# Altium footprint library DIP-SW  0607.PCBlib: 56 footprints (part 3 of 4)
Each footprint in its own frame and in the unit in brackets; x right, y up, seen from the top. Pads: shape width x height; smd on the part's side, far side on the other; paste and mask are expansions set on the pad; w line width, h text height; cw(c..) or ccw(c..) is an arc to the next point about the centre after c.
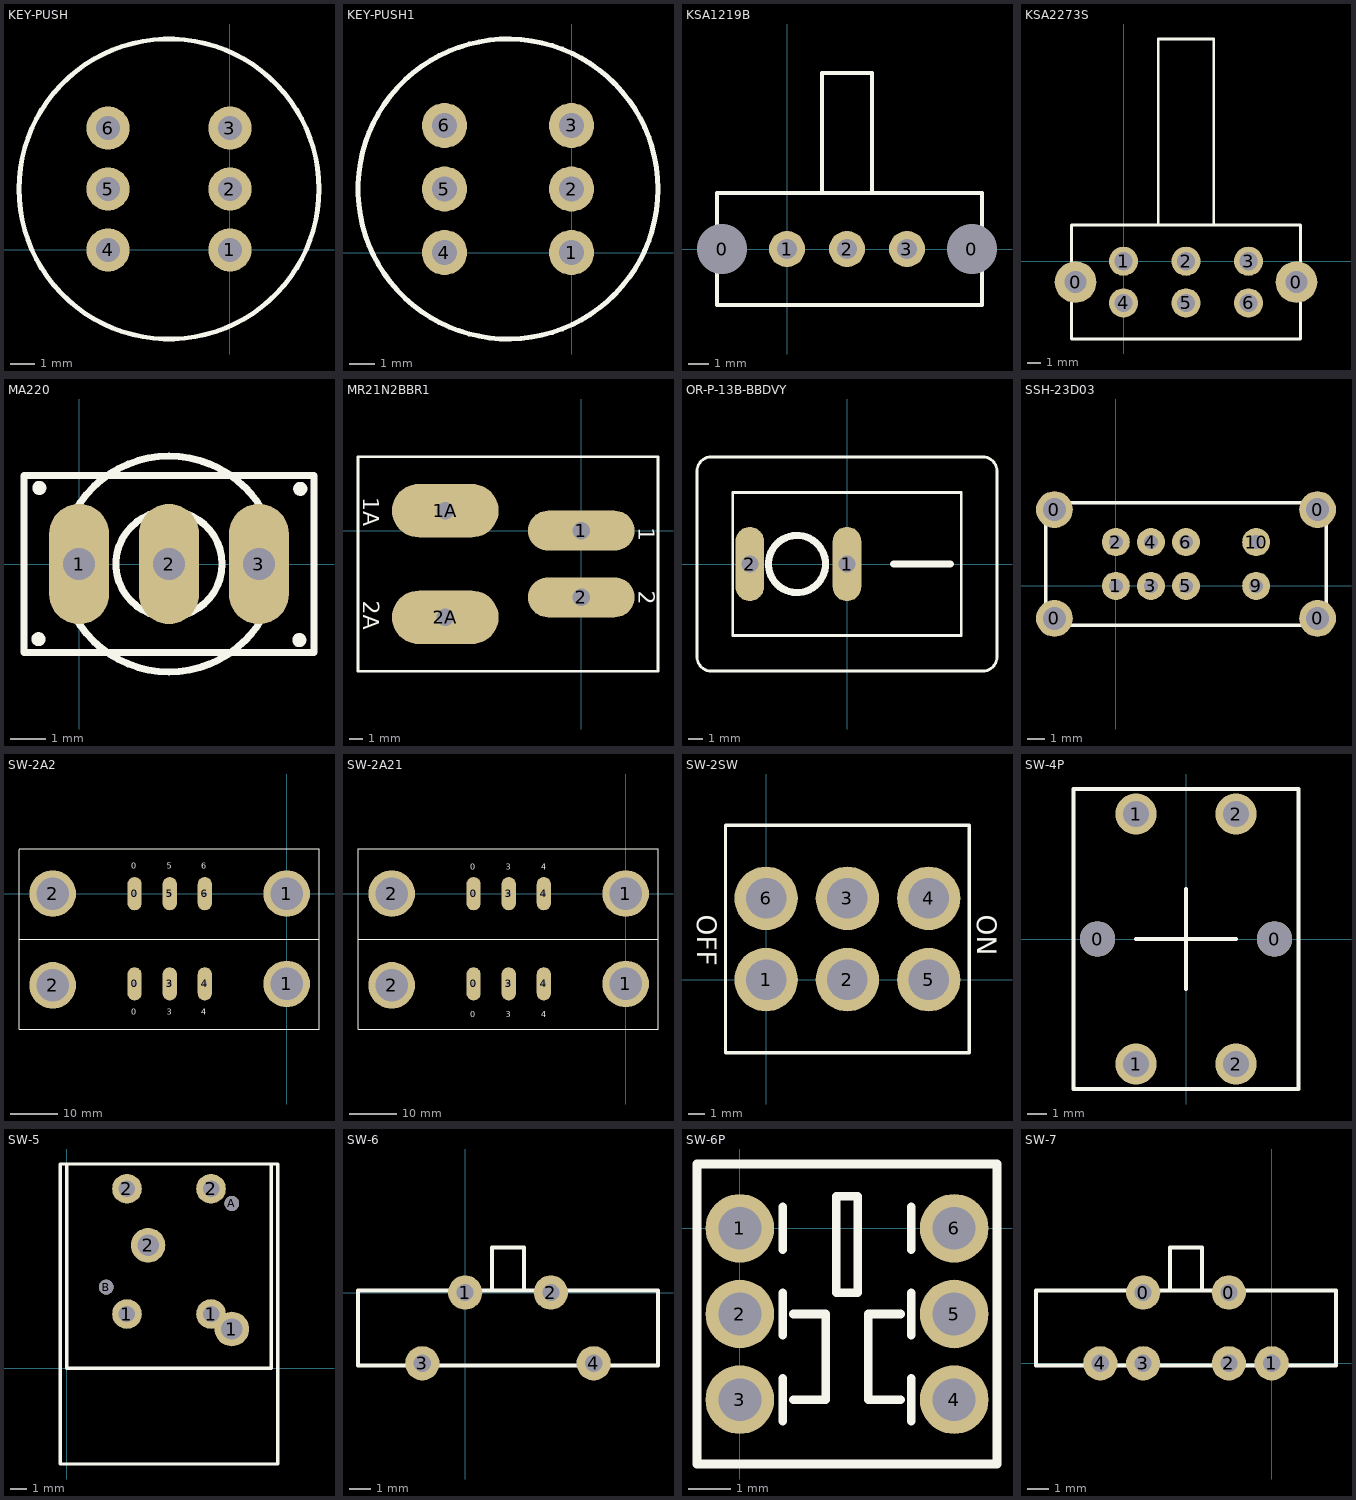
[diagram p2: the footprints below, top view; thin cyan lines are the x and y axes]

## KEY-PUSH [mm]
pads (6):
  round 1.8 hole 1: 1(0,0) 2(0,2.54) 3(0,5.08) 4(-5.08,0) 5(-5.08,2.54) 6(-5.08,5.08)
Top Overlay:
  circle w0.2: c-2.54,2.54 r6.25
Bottom Overlay:
  lines w0.4: -5.88,1.27 -4.28,1.27 ; -5.88,3.81 -4.28,3.81 ; -0.8,1.27 0.8,1.27 ; -0.8,3.81 0.8,3.81

## KEY-PUSH1 [mm]
pads (6):
  round 1.8 hole 1: 1(0,0) 2(0,2.54) 3(0,5.08) 4(-5.08,0) 5(-5.08,2.54) 6(-5.08,5.08)
Top Overlay:
  circle w0.2: c-2.54,2.54 r6
Bottom Overlay:
  lines w0.4: -5.88,1.27 -4.28,1.27 ; -5.88,3.81 -4.28,3.81 ; -0.8,1.27 0.8,1.27 ; -0.8,3.81 0.8,3.81

## KSA1219B [mm]
pads (5):
  round 2 hole 2.5 unplated: 0(-3.25,0) 0(9.25,0)
  round 1.8 hole 1: 1(0,0) 2(3,0) 3(6,0)
Top Overlay:
  lines w0.2: 1.75,2.8 1.75,8.8 4.25,8.8 4.25,2.8 ; -3.5,-2.8 9.75,-2.8 9.75,2.8 -3.5,2.8 -3.5,-2.8
Bottom Overlay:
  lines w0.5: 1.5,-0.8 1.5,0.8 ; 4.5,-0.8 4.5,0.8
Drill Drawing:
  circle w0.2: c9.25,0 r1.25
  circle w0.2: c-3.25,0 r1.25
  text "NPTH" at 7,-3 h1.2
  text "NPTH" at -5.5,-3 h1.2

## KSA2273S [mm]
pads (8):
  round 3 hole 1.6: 0(-3.45,-1.5) 0(12.45,-1.5)
  round 2.1 hole 1.3: 1(0,0) 2(4.5,0) 3(9,0) 4(0,-3) 5(4.5,-3) 6(9,-3)
Top Overlay:
  lines w0.2: 2.5,2.6 2.5,16 6.5,16 6.5,2.6 ; -3.75,-5.6 12.75,-5.6 12.75,2.6 -3.75,2.6 -3.75,-5.6
Bottom Overlay:
  lines w0.5: -1,-1.5 1,-1.5 ; 3.5,-1.5 5.5,-1.5 ; 8,-1.5 10,-1.5

## MA220 [mm]
height 23.7
pads (3):
  oval 1.7x3.4 hole 0.9: 1(0,0) 2(2.54,0) 3(5.08,0)
Top Overlay:
  circle w0.2: c-1.125,2.15 r0.1
  circle w0.2: c6.25,2.125 r0.1
  circle w0.2: c6.225,-2.15 r0.1
  circle w0.2: c-1.15,-2.125 r0.1
  circle w0.2: c2.54,0 r1.5
  lines w0.2: -0.126,-1.481 ccw(c2.54,0) 5.201,-1.491 ; -0.126,1.481 cw(c2.54,0) 5.201,1.491 ; -1.56,-2.5 6.64,-2.5 6.64,2.5 -1.56,2.5 -1.56,-2.5
Bottom Overlay:
  lines w0.5: 1.27,-1.75 1.27,1.75 ; 3.81,-1.75 3.81,1.75
Top Solder:
  lines w1.2: 0,-0.55 0,0 0,0.55 ; 2.54,-0.55 2.54,0 2.54,0.55 ; 5.08,-0.55 5.08,0 5.08,0.55
Drill Drawing:
  lines w0.2: -0.45,-0.55 ccw(c0,-0.55) 0.45,-0.55 0.45,0.55 ccw(c0,0.55) -0.45,0.55 -0.45,-0.55 ; 2.09,-0.55 ccw(c2.54,-0.55) 2.99,-0.55 2.99,0.55 ccw(c2.54,0.55) 2.09,0.55 2.09,-0.55 ; 4.63,-0.55 ccw(c5.08,-0.55) 5.53,-0.55 5.53,0.55 ccw(c5.08,0.55) 4.63,0.55 4.63,-0.55
  text "(0.9*2)mm*3" at -1.5,-3 h1

## MR21N2BBR1 [mm]
height 15.1
pads (4):
  oval 8x3 hole 1.3: 1(0,0) 2(0,-5)
  oval 8x4 hole 1.3: 1A(-10.2,1.5) 2A(-10.2,-6.5)
Top Overlay:
  lines w0.2: -16.75,-10.55 -16.75,5.55 5.75,5.55 5.75,-10.55 -16.75,-10.55
  text "2" at 4.3,-4.5 h1.2
  text "1" at 4.3,0.25 h1.2
  text "1A" at -16.35,2.5 h1.2
  text "2A" at -16.35,-5.25 h1.2
Drill Drawing:
  lines w0.2: -12.3,-7.15 cw(c-12.3,-6.5) -12.3,-5.85 -8.1,-5.85 cw(c-8.1,-6.5) -8.1,-7.15 -12.3,-7.15 ; -12.3,0.85 cw(c-12.3,1.5) -12.3,2.15 -8.1,2.15 cw(c-8.1,1.5) -8.1,0.85 -12.3,0.85 ; -2.1,-5.65 cw(c-2.1,-5) -2.1,-4.35 2.1,-4.35 cw(c2.1,-5) 2.1,-5.65 -2.1,-5.65 ; -2.1,-0.65 cw(c-2.1,0) -2.1,0.65 2.1,0.65 cw(c2.1,0) 2.1,-0.65 -2.1,-0.65
  text "(1.3X5.5)*4" at -13.1,-3 h1.2

## OR-P-13B-BBDVY [mm]
height 14
pads (2):
  oval 2x5.2 hole 1.2: 1(0,0) 2(-6.8,0)
Top Overlay:
  circle w0.5: c-3.5,0 r2
  lines w0.2: -10.5,6.5 ccw(c-10.5,6.5) -10.5,6.5 ; -10.5,6.5 cw(c-9.5,6.5) -9.5,7.5 9.5,7.5 cw(c9.5,6.5) 10.5,6.5 10.5,-6.5 cw(c9.5,-6.5) 9.5,-7.5 -9.5,-7.5 ; -10.5,6.5 -10.5,-6.5 ccw(c-9.5,-6.5) -9.5,-7.5 ; -9.5,-7.5 ccw(c-9.5,-7.5) -9.5,-7.5 ; -8,-5 -8,5 8,5 8,-5 -8,-5
  lines w0.5: 3.25,0 7.25,0
Drill Drawing:
  lines w0.2: -7.4,-1 ccw(c-6.8,-1) -6.2,-1 -6.2,1 ccw(c-6.8,1) -7.4,1 -7.4,-1 ; -0.6,-1 ccw(c0,-1) 0.6,-1 0.6,1 ccw(c0,1) -0.6,1 -0.6,-1
  text "(1.2X3.2)*2" at -7.5,-4.25 h1.2

## SSH-23D03 [mm]
pads (12):
  round 2.1 hole 1.3: 0(-3.5,-1.85) 0(-3.5,4.35) 0(11.5,-1.85) 0(11.5,4.35)
  round 1.6 hole 0.8: 1(0,0) 2(0,2.5) 3(2,0) 4(2,2.5) 5(4,0) 6(4,2.5) 9(8,0) 10(8,2.5)
Top Overlay:
  lines w0.2: -4,-2.25 -4,4.75 12,4.75 12,-2.25 -4,-2.25
Bottom Overlay:
  lines w0.2: 1,-0.8 1,3.25 ; 3,-0.8 3,3.25
  lines w0.5: -0.8,1.25 4.5,1.25 ; 7.2,1.25 8.75,1.25

## SW-2A2 [mm]
pads (10):
  oval 3x7 hole 1: 0(-32.05,-19) 0(-32.05,0) 3(-24.65,-19) 4(-17.25,-19) 5(-24.65,0) 6(-17.25,0)
  round 9.8 hole 6.8: 1(0,-19) 1(0,0) 2(-49.3,-19.3) 2(-49.3,0)
Top Overlay:
  lines w0.2: -56.4,-9.55 6.8,-9.55 ; -56.4,9.25 -56.4,-28.6 6.8,-28.6 6.8,9.5 -56.4,9.5
  text "3" at -25.25,-25.5 h1.2
  text "4" at -18,-25.5 h1.2
  text "5" at -25.25,5.25 h1.2
  text "6" at -18,5.25 h1.2
  text "0" at -32.75,5.25 h1.2
  text "0" at -32.75,-25.5 h1.2
Drill Drawing:
  lines w0.2: -32.55,-20.55 ccw(c-32.05,-20.55) -31.55,-20.55 -31.55,-17.475 ccw(c-32.05,-17.475) -32.55,-17.475 -32.55,-20.55 ; -32.55,-1.55 ccw(c-32.05,-1.55) -31.55,-1.55 -31.55,1.525 ccw(c-32.05,1.525) -32.55,1.525 -32.55,-1.55 ; -25.15,-20.55 ccw(c-24.65,-20.55) -24.15,-20.55 -24.15,-17.475 ccw(c-24.65,-17.475) -25.15,-17.475 -25.15,-20.55 ; -25.15,-1.55 ccw(c-24.65,-1.55) -24.15,-1.55 -24.15,1.525 ccw(c-24.65,1.525) -25.15,1.525 -25.15,-1.55 ; -17.75,-20.55 ccw(c-17.25,-20.55) -16.75,-20.55 -16.75,-17.475 ccw(c-17.25,-17.475) -17.75,-17.475 -17.75,-20.55 ; -17.75,-1.55 ccw(c-17.25,-1.55) -16.75,-1.55 -16.75,1.525 ccw(c-17.25,1.525) -17.75,1.525 -17.75,-1.55
  text "(1.0X4.0)*6" at -28.75,-8.75 h1.2

## SW-2A21 [mm]
pads (10):
  oval 3x7 hole 1: 0(-32.05,-19) 0(-32.05,0) 3(-24.65,-19) 3(-24.65,0) 4(-17.25,-19) 4(-17.25,0)
  round 9.8 hole 6.8: 1(0,-19) 1(0,0) 2(-49.3,-19.3) 2(-49.3,0)
Top Overlay:
  lines w0.2: -56.4,-9.55 6.8,-9.55 ; -56.4,-28.6 -56.4,9.5 6.8,9.5 6.8,-28.6 -56.4,-28.6
  text "4" at -17.75,-26 h1.2
  text "4" at -17.75,5 h1.2
  text "3" at -25.25,5 h1.2
  text "3" at -25.25,-26 h1.2
  text "0" at -32.75,-26 h1.2
  text "0" at -32.75,5 h1.2
Drill Drawing:
  lines w0.2: -32.55,-20.5 ccw(c-32.05,-20.5) -31.55,-20.5 -31.55,-17.475 ccw(c-32.05,-17.475) -32.55,-17.475 -32.55,-20.5 ; -32.55,-1.5 ccw(c-32.05,-1.5) -31.55,-1.5 -31.55,1.525 ccw(c-32.05,1.525) -32.55,1.525 -32.55,-1.5 ; -25.15,-20.5 ccw(c-24.65,-20.5) -24.15,-20.5 -24.15,-17.475 ccw(c-24.65,-17.475) -25.15,-17.475 -25.15,-20.5 ; -25.15,-1.5 ccw(c-24.65,-1.5) -24.15,-1.5 -24.15,1.525 ccw(c-24.65,1.525) -25.15,1.525 -25.15,-1.5 ; -17.75,-20.5 ccw(c-17.25,-20.5) -16.75,-20.5 -16.75,-17.475 ccw(c-17.25,-17.475) -17.75,-17.475 -17.75,-20.5 ; -17.75,-1.5 ccw(c-17.25,-1.5) -16.75,-1.5 -16.75,1.525 ccw(c-17.25,1.525) -17.75,1.525 -17.75,-1.5
  text "(1.0X4.0)*6" at -28.5,-9.25 h1.2

## SW-2SW [mm]
pads (6):
  round 3.9 hole 2.5: 1(0,0) 2(5,0) 3(5,5) 4(10,5) 5(10,0) 6(0,5)
Top Overlay:
  lines w0.2: -2.5,-4.5 12.5,-4.5 12.5,9.5 -2.5,9.5 -2.5,-4.5
  text "OFF" at -4.25,4 h1.2
  text "ON" at 13,4 h1.2
Bottom Overlay:
  lines w0.5: -2,2.5 12,2.5 ; 2.5,-2 2.5,7 ; 7.5,-2 7.5,7

## SW-4P [mm]
pads (6):
  round 1.8 hole 1.8 unplated: 0(-4.497,0.006) 0(4.495,0.006)
  round 2.1 hole 1.3: 1(-2.541,-6.344) 1(-2.541,6.356) 2(2.539,-6.344) 2(2.539,6.356)
Top Overlay:
  lines w0.2: -2.541,0.006 2.539,0.006 ; -0.001,-2.534 -0.001,2.546 ; -5.716,-7.614 -5.716,7.626 5.714,7.626 5.714,-7.614 -5.716,-7.614
Drill Drawing:
  circle w0.2: c4.495,0.006 r0.9
  circle w0.2: c-4.497,0.006 r0.9
  text "NPTH" at 2.5,1.25 h1.2
  text "NPTH" at -6.5,1.25 h1.2

## SW-5 [mm]
pads (8):
  round 1.8 hole 1: 1(3.65,3.3) 1(8.75,3.3) 2(3.65,10.9) 2(8.75,10.9)
  round 2.1 hole 1.3: 1(10.01,2.39) 2(4.93,7.47)
  round 0.9 hole 0.9 unplated: A(10.01,10.01) B(2.39,4.93)
Top Overlay:
  lines w0.2: -0.4,-5.8 -0.4,12.4 12.8,12.4 12.8,-5.8 -0.4,-5.8 ; 0,0 0,12.4 12.4,12.4 12.4,0 0,0
Drill Drawing:
  circle w0.2: c10.01,10.01 r0.45
  circle w0.2: c2.39,4.93 r0.45
  text "NPTH" at -2.5,4.25 h1.2
  text "NPTH" at 11,9.25 h1.2

## SW-6 [mm]
pads (4):
  round 1.6 hole 0.8: 1(0,0) 2(4,0) 3(-2,-3.3) 4(6,-3.3)
Top Overlay:
  lines w0.2: 1.25,0.1 1.25,2.1 2.75,2.1 2.75,0.1 ; -5,-3.4 9,-3.4 9,0.1 -5,0.1 -5,-3.4

## SW-6P [mm]
pads (6):
  round 1.6 hole 1: 1(0,0) 2(0,-2) 3(0,-4) 4(5,-4) 5(5,-2) 6(5,0)
Top Overlay:
  lines w0.2: 1,-4.5 1,-3.5 ; 1,-2.5 1,-1.5 ; 1,-0.5 1,0.5 ; 1.25,-4 2,-4 2,-2 1.25,-2 ; 3.75,-4 3,-4 3,-2 3.75,-2 ; 4,-4.5 4,-3.5 ; 4,-2.5 4,-1.5 ; 4,-0.5 4,0.5 ; -1,-5.5 6,-5.5 6,1.5 -1,1.5 -1,-5.5 ; 2.25,-1.5 2.25,0.75 2.75,0.75 2.75,-1.5 2.25,-1.5
Bottom Overlay:
  lines w0.2: -0.75,-3 0.75,-3 ; -0.75,-1 0.75,-1 ; 4.25,-3 5.75,-3 ; 4.25,-1 5.75,-1

## SW-7 [mm]
pads (6):
  round 1.6 hole 0.8: 0(-6,3.3) 0(-2,3.3) 1(0,0) 2(-2,0) 3(-6,0) 4(-8,0)
Top Overlay:
  lines w0.2: -4.75,3.4 -4.75,5.4 -3.25,5.4 -3.25,3.4 ; -11,-0.1 -11,3.4 3,3.4 3,-0.1 -11,-0.1
Bottom Overlay:
  lines w0.2: -7,-0.75 -7,0.75 ; -1,-0.75 -1,0.75